# Altium footprint library SCNano-lib.PcbLib: 30 footprints (part 1 of 2)
Each footprint in its own frame and in the unit in brackets; x right, y up, seen from the top. Pads: shape width x height; smd on the part's side, far side on the other; paste and mask are expansions set on the pad; w line width, h text height; cw(c..) or ccw(c..) is an arc to the next point about the centre after c.
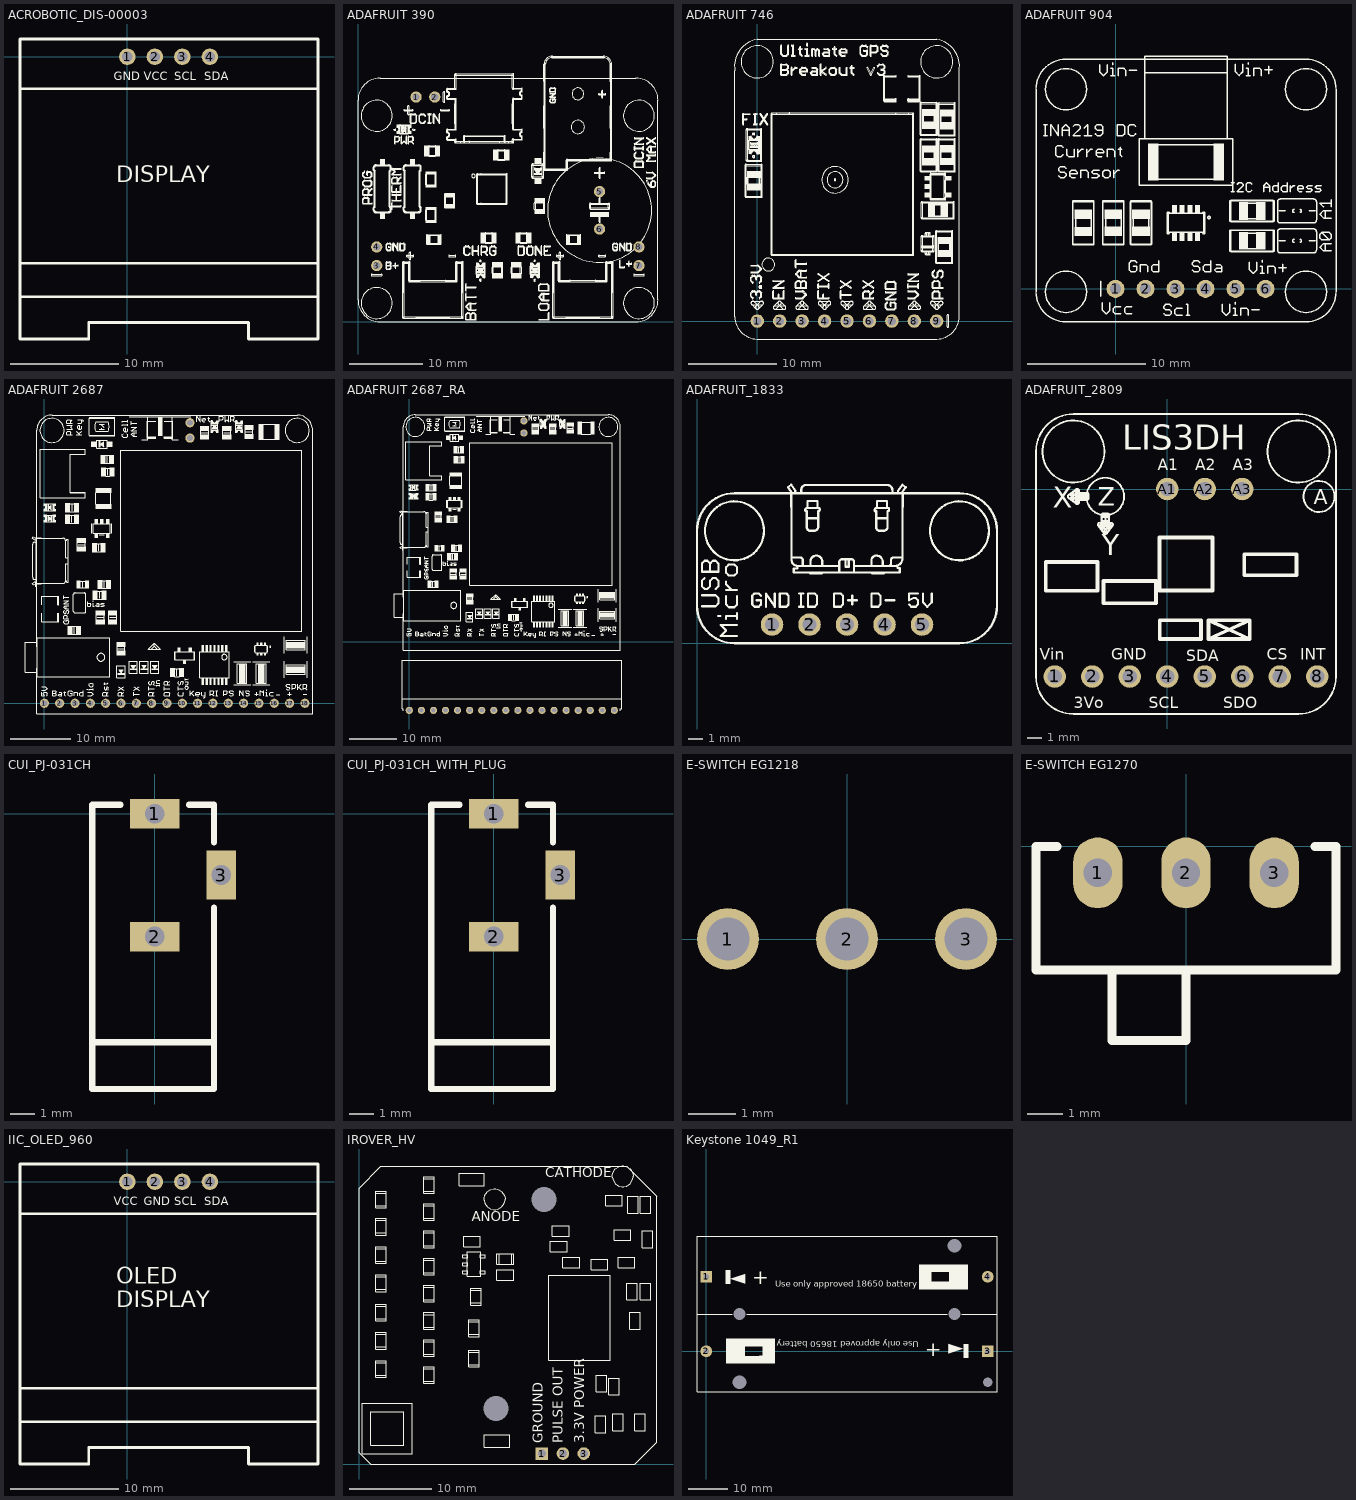
[diagram p0: the footprints below, top view; thin cyan lines are the x and y axes]

## ACROBOTIC_DIS-00003 [mil] "Acrobotic OLED Dispaly 0.96\" diagonal, VCC on pin 2"
pads (4):
  round 60 hole 38: 1(0,0) 2(100,0) 3(200,0) 4(300,0)
Top Overlay:
  lines w10: -390,-872.46 692.68,-872.46 692.68,-742.54 ; -390,-750.41 692.68,-750.41 692.68,-754.35 ; -390,-116.55 692.68,-116.55 692.68,-214.98 ; -390.01,-1026.01 -390.01,-1026 ; -390.01,-1026 -140,-1026 -140,-966 440,-966 440,-1026 692.68,-1026 692.68,64.55 -390,64.55 -390,-1026
  text "DISPLAY" at -40,-456 h60
  text "SDA" at 280,-86 h30
  text "SCL" at 170,-86 h30
  text "VCC" at 60,-86 h30
  text "GND" at -50,-86 h30
3D body "Acrobotic Display 4.step": height 210.08, standoff 100, extent -390,-1026 690,64

## ADAFRUIT 390 [mil] "Adafruit MCP73871 Solar Charger"
pads (8):
  round 60 hole 38: 1(310,1200) 2(410,1200) 3(100,300) 4(100,400) 5(1290,695) 6(1290,495) 7(1500,300) 8(1500,400)
Top Overlay:
  drawing of 2270 lines, arcs and shapes, not listed
3D body: height 200, standoff -100, extent 81.15,381.04 119,418.97
3D body: height 380, standoff 160, extent 242.52,21.89 557.48,317.17
3D body: height 380, standoff 160, extent 1042.52,21.89 1357.48,317.17
3D body: height 325, standoff 160, extent 517.46,954.9 832.54,1325.1
3D body: height 600, standoff 160, extent 996.77,863.03 1351.1,1418.21
3D body: height 200, standoff -100, extent 1271.15,676.04 1309,713.97
3D body: height 200, standoff -100, extent 1271.15,476.04 1309,513.97
3D body: height 200, standoff -100, extent 291.15,1181.04 329,1218.97
3D body: height 200, standoff -100, extent 391.15,1181.04 429,1218.97
3D body: height 200, standoff -100, extent 81.15,281.04 119,318.97
3D body: height 200, standoff -100, extent 1481.15,281.04 1519,318.97
3D body: height 200, standoff -100, extent 1481.15,381.04 1519,418.97
3D body: height 160, standoff 100, extent 0,0 1601.65,1301.06

## ADAFRUIT 746 [mil] "Adafruit Ultimate GPS"
pads (9):
  round 60 hole 38: 1(0,0) 2(100,0) 3(200,0) 4(300,0) 5(400,0) 6(500,0) 7(600,0) 8(700,0) 9(800,0)
Top Overlay:
  drawing of 1666 lines, arcs and shapes, not listed
3D body: height 360, standoff 160, extent 65,295 695,925
3D body: height 160, standoff 100, extent -100,-80 900,1255
3D body: height 200, standoff -100, extent -18.85,-18.96 19,18.97
3D body: height 200, standoff -100, extent 81.15,-18.96 119,18.97
3D body: height 200, standoff -100, extent 181.15,-18.96 219,18.97
3D body: height 200, standoff -100, extent 281.15,-18.96 319,18.97
3D body: height 200, standoff -100, extent 381.15,-18.96 419,18.97
3D body: height 200, standoff -100, extent 481.15,-18.96 519,18.97
3D body: height 200, standoff -100, extent 581.15,-18.96 619,18.97
3D body: height 200, standoff -100, extent 681.15,-18.96 719,18.97
3D body: height 200, standoff -100, extent 781.15,-18.96 819,18.97

## ADAFRUIT 904 [mil]
pads (6):
  round 60 hole 38: 1(0,0) 2(100,0) 3(200,0) 4(300,0) 5(400,0) 6(500,0)
Top Overlay:
  drawing of 457 lines, arcs and shapes, not listed
3D body: height 270, standoff 160, extent 172.01,184.57 297.99,255.43
3D body: height 220, standoff 160, extent 109,362.11 361.46,484.16
3D body: height 200, standoff -100, extent 481.15,-18.96 519,18.97
3D body: height 200, standoff -100, extent 381.15,-18.96 419,18.97
3D body: height 200, standoff -100, extent 281.15,-18.96 319,18.97
3D body: height 200, standoff -100, extent 181.15,-18.96 219,18.97
3D body: height 200, standoff -100, extent 81.15,-18.96 119,18.97
3D body: height 200, standoff -100, extent -18.84,-18.96 19,18.97
3D body: height 160, standoff 100, extent -265,-110 735,765

## ADAFRUIT 2687 [mil] "Adafruit FONA 3G Cellular + GPS Breakout"
pads (20):
  round 60 hole 38: 1(0,0) 2(100,0) 3(200,0) 4(300,0) 5(400,0) 6(500,0) 7(600,0) 8(700,0) 9(800,0) 10(900,0) 11(1000,0) 12(1100,0) 13(1200,0) 14(1300,0) 15(1400,0) 16(1500,0) 17(1600,0) 18(1700,0) SCL(950,1730) SDA(950,1830)
Top Overlay:
  drawing of 931 lines, arcs and shapes, not listed
3D body: height 200, standoff -100, extent 1381.15,-18.96 1419,18.97
3D body: height 200, standoff -100, extent 1281.15,-18.96 1319,18.97
3D body: height 200, standoff -100, extent 1181.15,-18.96 1219,18.97
3D body: height 200, standoff -100, extent 1081.15,-18.96 1119,18.97
3D body: height 200, standoff -100, extent 981.15,-18.96 1019,18.97
3D body: height 200, standoff -100, extent 881.15,-18.96 919,18.97
3D body: height 200, standoff -100, extent 781.15,-18.96 819,18.97
3D body: height 200, standoff -100, extent 681.15,-18.96 719,18.97
3D body: height 200, standoff -100, extent 581.15,-18.96 619,18.97
3D body: height 200, standoff -100, extent 481.15,-18.96 519,18.97
3D body: height 200, standoff -100, extent 381.15,-18.96 419,18.97
3D body: height 200, standoff -100, extent 281.15,-18.96 319,18.97
3D body: height 200, standoff -100, extent 1481.15,-18.96 1519,18.97
3D body: height 200, standoff -100, extent 1581.15,-18.96 1619,18.97
3D body: height 200, standoff -100, extent 1681.15,-18.96 1719,18.97
3D body: height 200, standoff -100, extent 181.15,-18.96 219,18.97
3D body: height 200, standoff -100, extent 81.15,-18.96 119,18.97
3D body: height 200, standoff -100, extent -18.85,-18.96 19,18.97
3D body: height 100, standoff 0, extent 732.23,250 1411.2,1427.39
3D body: height 270, standoff 160, extent 499.45,469.45 1680.55,1650.55
3D body: height 270, standoff 160, extent -77.91,781.38 156.34,1086.5
3D body: height 330, standoff 160, extent -123.74,174.02 427.44,425.98
3D body: height 380, standoff 160, extent -28.11,1342.52 267.17,1657.48
3D body: height 160, standoff 100, extent -50,-70 1750,1880

## ADAFRUIT 2687_RA [mil] "Adafruit FONA 3G Cellular + GPS Breakout, with RA header and matching socket"
pads (20):
  round 60 hole 38: 1(0,-569.89) 2(100,-569.89) 3(200,-569.89) 4(300,-569.89) 5(400,-569.89) 6(500,-569.89) 7(600,-569.89) 8(700,-569.89) 9(800,-569.89) 10(900,-569.89) 11(1000,-569.89) 12(1100,-569.89) 13(1200,-569.89) 14(1300,-569.89) 15(1400,-569.89) 16(1500,-569.89) 17(1600,-569.89) 18(1700,-569.89) SCL(950,1730) SDA(950,1830)
Top Overlay:
  drawing of 939 lines, arcs and shapes, not listed
3D body "_ _ _C018SBAN-M71RC.STEP": height 100, standoff -120.08, extent -49.99,-388.18 1750.01,12.61
3D body: height 200, standoff -100, extent 1381.15,-18.96 1419,18.97
3D body: height 200, standoff -100, extent 1281.15,-18.96 1319,18.97
3D body: height 200, standoff -100, extent 1181.15,-18.96 1219,18.97
3D body: height 200, standoff -100, extent 1081.15,-18.96 1119,18.97
3D body: height 200, standoff -100, extent 981.15,-18.96 1019,18.97
3D body: height 200, standoff -100, extent 881.15,-18.96 919,18.97
3D body: height 200, standoff -100, extent 781.15,-18.96 819,18.97
3D body: height 200, standoff -100, extent 681.15,-18.96 719,18.97
3D body: height 200, standoff -100, extent 581.15,-18.96 619,18.97
3D body: height 200, standoff -100, extent 481.15,-18.96 519,18.97
3D body: height 200, standoff -100, extent 381.15,-18.96 419,18.97
3D body: height 200, standoff -100, extent 281.15,-18.96 319,18.97
3D body: height 200, standoff -100, extent 1481.15,-18.96 1519,18.97
3D body: height 200, standoff -100, extent 1581.15,-18.96 1619,18.97
3D body: height 200, standoff -100, extent 1681.15,-18.96 1719,18.97
3D body: height 200, standoff -100, extent 181.15,-18.96 219,18.97
3D body: height 200, standoff -100, extent 81.15,-18.96 119,18.97
3D body: height 200, standoff -100, extent -18.85,-18.96 19,18.97
3D body: height 100, standoff 0, extent 732.23,250 1411.2,1427.39
3D body: height 270, standoff 160, extent 499.45,469.45 1680.55,1650.55
3D body: height 270, standoff 160, extent -77.91,781.38 156.34,1086.5
3D body: height 330, standoff 160, extent -123.74,174.02 427.44,425.98
3D body: height 380, standoff 160, extent -28.11,1342.52 267.17,1657.48
3D body: height 160, standoff 100, extent -50,-70 1750,1880
3D body "_ _ _C181LGBN-RC.STEP": height 100, standoff -124.02, extent -59.83,-577.76 1759.86,-172.24
3D body: height 180, standoff 160, extent 672.32,1737.82 837.68,1840.18
3D body: height 223, standoff 180, extent 685,1719 825,1859

## ADAFRUIT_1833 [mil] "Adafruit 1833 Micro USB Breakout Module"
height 275.59
pads (5):
  round 60 hole 38: 1(200,50) 2(300,50) 3(400,50) 4(500,50) 5(600,50)
Top Overlay:
  drawing of 223 lines, arcs and shapes, not listed
3D body: height 160, standoff 100, extent 0,0 800,400
3D body: height 200, standoff -100, extent 581.15,31.04 619,68.97
3D body: height 200, standoff -100, extent 481.15,31.04 519,68.97
3D body: height 200, standoff -100, extent 381.15,31.04 419,68.97
3D body: height 200, standoff -100, extent 281.15,31.04 319,68.97
3D body: height 200, standoff -100, extent 181.15,31.04 219,68.97
3D body "1050170001.stp": height 264.33, standoff 134.41, extent 238.18,209.14 561.02,421.73

## ADAFRUIT_2809 [mil] "Adafruit LIS3DH Triple-Axis Accelerometer (+-2g/4g/8g/16g)"
pads (11):
  round 60 hole 38: 1(-300,-500) 2(-200,-500) 3(-100,-500) 4(0,-500) 5(100,-500) 6(200,-500) 7(300,-500) 8(400,-500) A1(0,0) A2(100,0) A3(200,0)
Top Overlay:
  circle w5: c-250,100 r82.74
  circle w5: c350,100 r82.74
  circle w5: c405,-20 r41.35
  lines w5: -215.16,-19.87 ccw(c-165.93,-20.73) -165.07,-69.96 ; -165.16,-69.96 ccw(c-165.16,-19.96) -115.16,-19.96 ccw(c-165.16,-19.96) -165.16,30.04 ccw(c-165.16,-19.96) -215.16,-19.96 ; -240.16,-19.96 ccw(c-240.16,-24.96) -240.16,-29.96 -215.16,-29.96 ccw(c-215.16,-24.96) -215.16,-19.96 ; -240.16,-19.96 cw(c-240.16,-14.96) -240.16,-9.96 -215.16,-9.96 cw(c-215.16,-14.96) -215.16,-19.96 ; -240.16,-19.96 -215.16,-19.96 ; -240.16,-19.96 -215.16,-19.96 ; -169.84,-85 ccw(c-169.84,-90) -169.84,-95 -159.84,-95 ccw(c-159.84,-90) -159.84,-85 ; -169.84,-85 cw(c-169.84,-80) -169.84,-75 -159.84,-75 cw(c-159.84,-80) -159.84,-85 ; -169.84,-85 -159.84,-85 ; -169.84,-85 -159.84,-85 ; -164.84,-95.04 ccw(c-159.84,-95.04) -154.84,-95.04 -154.84,-70.04 ccw(c-159.84,-70.04) -164.84,-70.04 ; -164.84,-95.04 cw(c-169.84,-95.04) -174.84,-95.04 -174.84,-70.04 cw(c-169.84,-70.04) -164.84,-70.04 ; -164.84,-95.04 -164.84,-70.04 ; -164.84,-95.04 -164.84,-70.04 ; -350,-500 ccw(c-250,-500) -250,-600 350,-600 ccw(c350,-500) 450,-500 450,100 ccw(c350,100) 350,200 -250,200 ccw(c-250,100) -350,100 -350,-500 ; -263.16,-23.96 cw(c-260.16,-19.96) -257.16,-15.96 -237.16,-30.96 cw(c-240.16,-34.96) -243.16,-38.96 -263.16,-23.96 ; -263.16,-15.96 ccw(c-260.16,-19.96) -257.16,-23.96 -237.16,-8.96 ccw(c-240.16,-4.96) -243.16,-0.96 -263.16,-15.96 ; -260.11,-25 cw(c-260.11,-20) -260.11,-15 -215.16,-15 cw(c-215.16,-20) -215.16,-25 -260.11,-25 ; -246.88,-15 cw(c-246.88,-10) -246.88,-5 -240.16,-5 cw(c-240.16,-10) -240.16,-15 -246.88,-15 ; -246.77,-35 cw(c-246.77,-30) -246.77,-25 -240.16,-25 cw(c-240.16,-30) -240.16,-35 -246.77,-35 ; -245.16,-34.96 ccw(c-240.16,-34.96) -235.16,-34.96 -235.16,-24.96 ccw(c-240.16,-24.96) -245.16,-24.96 -245.16,-34.96 ; -245.16,-14.96 ccw(c-240.16,-14.96) -235.16,-14.96 -235.16,-4.96 ccw(c-240.16,-4.96) -245.16,-4.96 -245.16,-14.96 ; -220.16,-24.96 ccw(c-215.16,-24.96) -210.16,-24.96 -210.16,-14.96 ccw(c-215.16,-14.96) -220.16,-14.96 -220.16,-24.96 ; -183.84,-98.04 cw(c-179.84,-95.04) -175.84,-92.04 -160.84,-112.04 cw(c-164.84,-115.04) -168.84,-118.04 -183.84,-98.04 ; -179.84,-100.04 cw(c-179.84,-95.04) -179.84,-90.04 -169.84,-90.04 cw(c-169.84,-95.04) -169.84,-100.04 -179.84,-100.04 ; -176.12,-105 cw(c-176.12,-100) -176.12,-95 -153.56,-95 cw(c-153.56,-100) -153.56,-105 -176.12,-105 ; -169.84,-75.04 cw(c-169.84,-70.04) -169.84,-65.04 -159.84,-65.04 cw(c-159.84,-70.04) -159.84,-75.04 -169.84,-75.04 ; -168.84,-112.04 ccw(c-164.84,-115.04) -160.84,-118.04 -145.84,-98.04 ccw(c-149.84,-95.04) -153.84,-92.04 -168.84,-112.04 ; -168.62,-115 cw(c-168.62,-110) -168.62,-105 -161.06,-105 cw(c-161.06,-110) -161.06,-115 -168.62,-115 ; -159.84,-100.04 cw(c-159.84,-95.04) -159.84,-90.04 -149.84,-90.04 cw(c-149.84,-95.04) -149.84,-100.04 -159.84,-100.04
  lines w10: 110,-400 219.84,-350 ; 110,-400 110,-379.84 110,-350 ; 110,-400 179.84,-400 219.84,-400 ; 110,-350 219.84,-400 ; 110,-350 132.87,-350 219.84,-350 ; 219.84,-400 219.84,-350 ; 219.84,-400 219.84,-379.84 219.84,-350 ; -323.96,-271.5 -315.96,-271.5 -186.04,-271.5 -186.04,-240 -186.04,-194.66 -250,-194.66 -323.96,-194.66 -323.96,-240 -323.96,-271.5 ; -169.84,-305 -169.84,-274.84 -169.84,-245 -146.97,-245 -30.16,-245 -30.16,-274.84 -30.16,-305 -100,-305 -169.84,-305 ; -20.93,-270.93 -20.93,-139.96 -20.93,-129.07 -1.18,-129.07 120.93,-129.07 120.93,-139.96 120.93,-270.93 101.18,-270.93 -20.93,-270.93 ; -19.84,-400 50,-400 90,-400 90,-379.84 90,-350 3.03,-350 -19.84,-350 -19.84,-379.84 -19.84,-400 ; 205.16,-230 205.16,-174.31 344.84,-174.31 344.84,-230 321.97,-230 205.16,-230
  text "INT" at 355,-455 h30
  text "CS" at 265,-455 h30
  text "SDO" at 150,-585 h30
  text "SDA" at 50,-460 h30
  text "SCL" at -50,-585 h30
  text "GND" at -150,-455 h30
  text "3Vo" at -250,-585 h30
  text "Vin" at -340,-455 h30
  text "LIS3DH" at -120,105 h66
  text "A1" at -25,50 h30
  text "A2" at 75,50 h30
  text "A3" at 175,50 h30
  text "Y" at -175.18,-176.04 h56
  text "X" at -305.16,-49.96 h56
  text "Z" at -185.16,-44.96 h50
  text "A" at 391,-40 h40
3D body: height 220, standoff 160, extent 205.16,-230 344.84,-174.31
3D body: height 220, standoff 160, extent -169.84,-305 -30.16,-245
3D body: height 220, standoff 160, extent -323.96,-271.5 -186.04,-194.66
3D body: height 220, standoff 160, extent -20.93,-270.93 120.93,-129.07
3D body: height 160, standoff 100, extent -350,-600 450,200
3D body: height 200, standoff -100, extent 381.16,-518.96 419,-481.03
3D body: height 200, standoff -100, extent 281.16,-518.96 319,-481.03
3D body: height 200, standoff -100, extent 181.16,-518.96 219,-481.03
3D body: height 200, standoff -100, extent 81.16,-518.96 119,-481.03
3D body: height 200, standoff -100, extent -18.84,-518.96 19,-481.03
3D body: height 200, standoff -100, extent -118.84,-518.96 -81,-481.03
3D body: height 200, standoff -100, extent -218.84,-518.96 -181,-481.03
3D body: height 200, standoff -100, extent -318.84,-518.96 -281,-481.03

## BAT18650 [mil] "BATTERY - ROUND 18X65.0mm"
3D body: height 751.65, standoff 35.76, extent -358.27,0 358.27,2554.53

## CUI_PJ-031CH [mm] "DC Jack 1.0x3.4 mm"
pads (3):
  rect 2x1.2 hole 0.8 square: 1(0,0) 2(0,-5)
  rect 1.2x2 hole 0.8 square: 3(2.7,-2.5)
Top Overlay:
  lines w0.254: -2.54,-9.295 2.413,-9.295 ; -1.397,0.357 -2.286,0.357 -2.54,0.357 -2.54,-11.2 2.413,-11.2 2.413,-3.834 ; 1.397,0.357 2.413,0.357 2.413,-1.167
3D body "pj-031ch.stp": height 7.4, standoff -3.2, extent -2.5,-11.2 2.9,0.4

## CUI_PJ-031CH_WITH_PLUG [mm] "DC Jack 1.0x3.4 mm modeled with mating plug"
pads (3):
  rect 2x1.2 hole 0.8 square: 1(0,0) 2(0,-5)
  rect 1.2x2 hole 0.8 square: 3(2.7,-2.5)
Top Overlay:
  lines w0.254: -2.54,-9.295 2.413,-9.295 ; -1.397,0.357 -2.286,0.357 -2.54,0.357 -2.54,-11.2 2.413,-11.2 2.413,-3.834 ; 1.397,0.357 2.413,0.357 2.413,-1.167
3D body "pj-031ch.stp": height 7.4, standoff -3.2, extent -2.5,-11.2 2.9,0.4
3D body "M3511_Plug.stp": height 9.2, standoff 0.2, extent -4.375,-34.906 4.623,-3.906

## E-SWITCH EG1218 [mm] "E Switch EG1218 - 2mm Actuator"
height 7.4
pads (3):
  round 1.3 hole 0.9: 1(-2.5,0) 2(0,0) 3(2.5,0)
3D body "EG1218.stp": height 7.4, standoff -4.7, extent -5.8,-2 5.8,2

## E-SWITCH EG1270 [mm] "SWITCH SLIDE SPDT 300MA 6V"
pads (3):
  oval 1.4x2 hole 0.8: 1(-2.5,-0.75) 2(0,-0.75) 3(2.5,-0.75)
Top Overlay:
  lines w0.254: -3.65,0 -4.25,0 -4.25,-3.5 ; -0.05,-5.5 -2.1,-5.5 -2.1,-3.5 -4.25,-3.5 ; 0,-5.5 0,-3.5 4.25,-3.5 ; 3.65,0 4.25,0 4.25,-3.5 ; -4.25,-3.5 4.25,-3.5
3D body "EG1270.stp": height 4, standoff -2.8, extent -4.25,-5.5 4.25,0

## IIC_OLED_960 [mil] "IIC OLED Dispaly 0.96\" diagonal w/ VCC on pin 1"
pads (4):
  round 60 hole 38: 1(0,0) 2(100,0) 3(200,0) 4(300,0)
Top Overlay:
  lines w10: -390,-872.46 692.68,-872.46 692.68,-742.54 ; -390,-750.41 692.68,-750.41 692.68,-754.35 ; -390,-116.55 692.68,-116.55 692.68,-214.98 ; -390.01,-1026.01 -390.01,-1026 ; -390.01,-1026 -140,-1026 -140,-966 440,-966 440,-1026 692.68,-1026 692.68,64.55 -390,64.55 -390,-1026
  text "OLED" at -40,-371 h60
  text "DISPLAY" at -40,-456 h60
  text "SDA" at 280,-86 h30
  text "SCL" at 170,-86 h30
  text "VCC" at -50,-86 h30
  text "GND" at 60,-86 h30
3D body "Acrobotic Display 4.step": height 210.08, standoff 100, extent -390,-1026 690,64

## IROVER_HV [mil] "IROVER HV Module"
pads (5):
  rect 60x60 hole 38: 1(875,50)
  round 60 hole 38: 2(975,50) 3(1075,50)
  round 0 hole 120 unplated: MH(655,265) MH(885,1265)
Top Overlay:
  drawing of 323 lines, arcs and shapes, not listed
  text "GROUND" at 895,100 h80
  text "3.3V POWER" at 1095,100 h80
  text "PULSE OUT" at 992.19,100 h80
  text "ANODE" at 540,1145 h80
  text "CATHODE" at 890,1355 h80
3D body: height 160, standoff 100, extent 0,0.02 1425.01,1425.03
3D body: height 260, standoff 160, extent 14.76,50.05 254.67,289.93
3D body: height 230, standoff 160, extent 865.35,150.11 1003.54,440.16
3D body: height 215, standoff 160, extent 907.11,497.02 1202.36,902.59
3D body: height 100, standoff 48, extent 461.42,493.31 677.17,692.91
3D body: height 200, standoff -100, extent 856.15,31.04 894,68.97
3D body: height 200, standoff -100, extent 956.15,31.04 994,68.97
3D body: height 200, standoff -100, extent 1056.15,31.04 1094,68.97

## Keystone 1049_R1 [mm] "THM Holder for Dual 18650 Batteries P/N 1049"
pads (9):
  rect 3x3 hole 1.32: 1(0,19.13) 3(72.22,0)
  round 3 hole 1.32: 2(0,0) 4(72.22,19.13)
  rect 0x0 hole 3.55 unplated: MH(8.51,-7.935) MH(63.71,27.065)
  rect 0x0 hole 3.18 unplated: MH(8.51,9.565) MH(63.71,9.565)
  rect 0x0 hole 2.38 unplated: MH(72.22,-7.935)
Top Overlay:
  rectangle: 5.08,-3.095 9.99,3.255
  region: 16.34,3.255 9.99,3.255 9.99,1.223 16.34,1.223
  region: 16.34,-1.19 9.99,-1.19 9.99,-3.095 16.34,-3.095
  region: 17.61,3.255 14.435,3.255 14.435,-3.095 17.61,-3.095
  rectangle: 66.067,-1.778 67.31,1.905
  region: 6.153,20.908 4.91,20.908 4.91,17.225 6.153,17.225
  rectangle: 54.61,15.875 57.785,22.225
  rectangle: 55.88,20.32 62.23,22.225
  rectangle: 55.88,15.875 62.23,17.907
  region: 67.14,22.225 62.23,22.225 62.23,15.875 67.14,15.875
  lines w0.254: -2.39,9.565 6.61,9.565 ; 10.41,9.565 61.81,9.565 ; 65.61,9.465 74.61,9.465 ; -2.39,-10.435 74.61,-10.435 74.61,29.565 -2.39,29.565 -2.39,-10.435
  text "◄ +" at 66.067,3.255 h6.35
  text "-" at 15.197,1.35 h6.35
  text "Use only approved 18650 battery" at 54.567,3.255 h2.79
  text "Use only approved 18650 battery" at 17.653,15.875 h2.79
  text "-" at 57.023,17.78 h6.35
  text "◄ +" at 6.153,15.875 h6.35
3D body "keystone-PN1049.STEP": height 14.91, standoff -3.48, extent -2.423,-10.335 74.633,29.442